# Altium footprint library RES_CHIP_0805_DIY.PcbLib: 1 footprints
Each footprint in its own frame and in the unit in brackets; x right, y up, seen from the top. Pads: shape width x height; smd on the part's side, far side on the other; paste and mask are expansions set on the pad; w line width, h text height; cw(c..) or ccw(c..) is an arc to the next point about the centre after c.
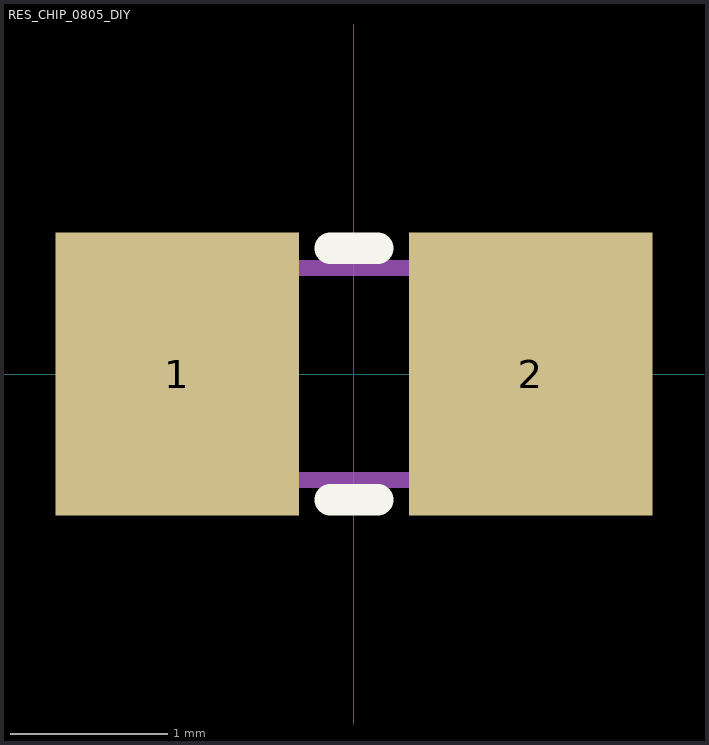
[diagram p0: the footprint, top view; thin cyan lines are the x and y axes]

## RES_CHIP_0805_DIY [mm] "Chip Resistor, 2-Leads, Body 2.0x1.3mm, IPC Low Density"
height 0.7
pads (2):
  rect 1.55x1.8 smd: 1(-1.125,0) 2(1.125,0)
Top Overlay:
  lines w0.2: -0.15,-0.8 0.15,-0.8 ; -0.15,0.8 0.15,0.8
Mechanical 13:
  lines w0.1: -1.1,-0.675 1.1,-0.675 1.1,0.675 -1.1,0.675 -1.1,-0.675
3D body: height 0.7, standoff 0, extent -1.1,-0.675 1.1,0.675